# EAGLE library part ATMEGA32A (library ATMEL)
ATmega32A The Atmel ATmega32A is a low-power CMOS 8-bit microcontroller based on the AVR® enhanced RISC architecture. By executing powerful instructions in a single clock cycle, the ATmega32A achieves throughputs close to 1MIPS per MHz. This empowers system designer to optimize the device for power consumption versus processing speed. Location: MCU/ATMEL
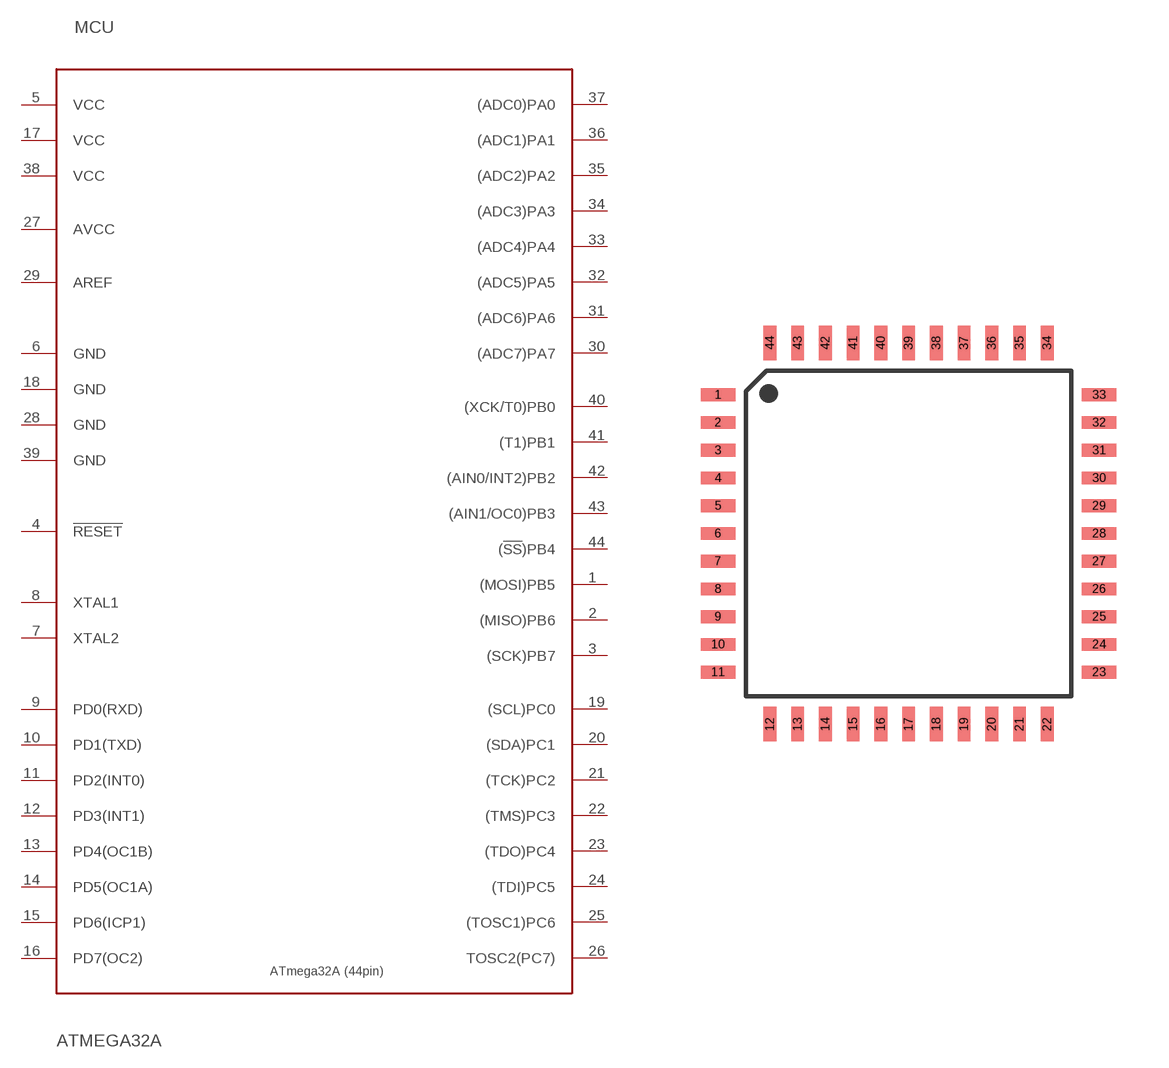
[diagram p1: symbol with the pads of TQFP-44; footprint TQFP-44]

Designator prefix MCU

## ATMEGA32ASMD  [TQFP-44]
1  (MOSI)PB5
2  (MISO)PB6
3  (SCK)PB7
4  !RESET!  in
5  VCC  pwr
6  GND  pwr
7  XTAL2  out
8  XTAL1  in
9  PD0(RXD)
10  PD1(TXD)
11  PD2(INT0)
12  PD3(INT1)
13  PD4(OC1B)
14  PD5(OC1A)
15  PD6(ICP1)
16  PD7(OC2)
17  VCC  pwr
18  GND  pwr
19  (SCL)PC0
20  (SDA)PC1
21  (TCK)PC2
22  (TMS)PC3
23  (TDO)PC4
24  (TDI)PC5
25  (TOSC1)PC6
26  TOSC2(PC7)
27  AVCC  sup
28  GND  pwr
29  AREF  in
30  (ADC7)PA7
31  (ADC6)PA6
32  (ADC5)PA5
33  (ADC4)PA4
34  (ADC3)PA3
35  (ADC2)PA2
36  (ADC1)PA1
37  (ADC0)PA0
38  VCC  pwr
39  GND  pwr
40  (XCK/T0)PB0
41  (T1)PB1
42  (AIN0/INT2)PB2
43  (AIN1/OC0)PB3
44  (!SS!)PB4

## Footprint TQFP-44 (pad centres in mm)
smd 1 x 0.37: 1 -5.5,4; 2 -5.5,3.2; 3 -5.5,2.4; 4 -5.5,1.6; 5 -5.5,0.8; 6 -5.5,0; 7 -5.5,-0.8; 8 -5.5,-1.6; 9 -5.5,-2.4; 10 -5.5,-3.2; 11 -5.5,-4; 23 5.5,-4; 24 5.5,-3.2; 25 5.5,-2.4; 26 5.5,-1.6; 27 5.5,-0.8; 28 5.5,0; 29 5.5,0.8; 30 5.5,1.6; 31 5.5,2.4; 32 5.5,3.2; 33 5.5,4
smd 0.37 x 1: 12 -4,-5.5; 13 -3.2,-5.5; 14 -2.4,-5.5; 15 -1.6,-5.5; 16 -0.8,-5.5; 17 0,-5.5; 18 0.8,-5.5; 19 1.6,-5.5; 20 2.4,-5.5; 21 3.2,-5.5; 22 4,-5.5; 34 4,5.5; 35 3.2,5.5; 36 2.4,5.5; 37 1.6,5.5; 38 0.8,5.5; 39 0,5.5; 40 -0.8,5.5; 41 -1.6,5.5; 42 -2.4,5.5; 43 -3.2,5.5; 44 -4,5.5